# Altium integrated library Linear Technology Power Management LED Driver ICs.IntLib: 490 symbols (part 30 of 48)
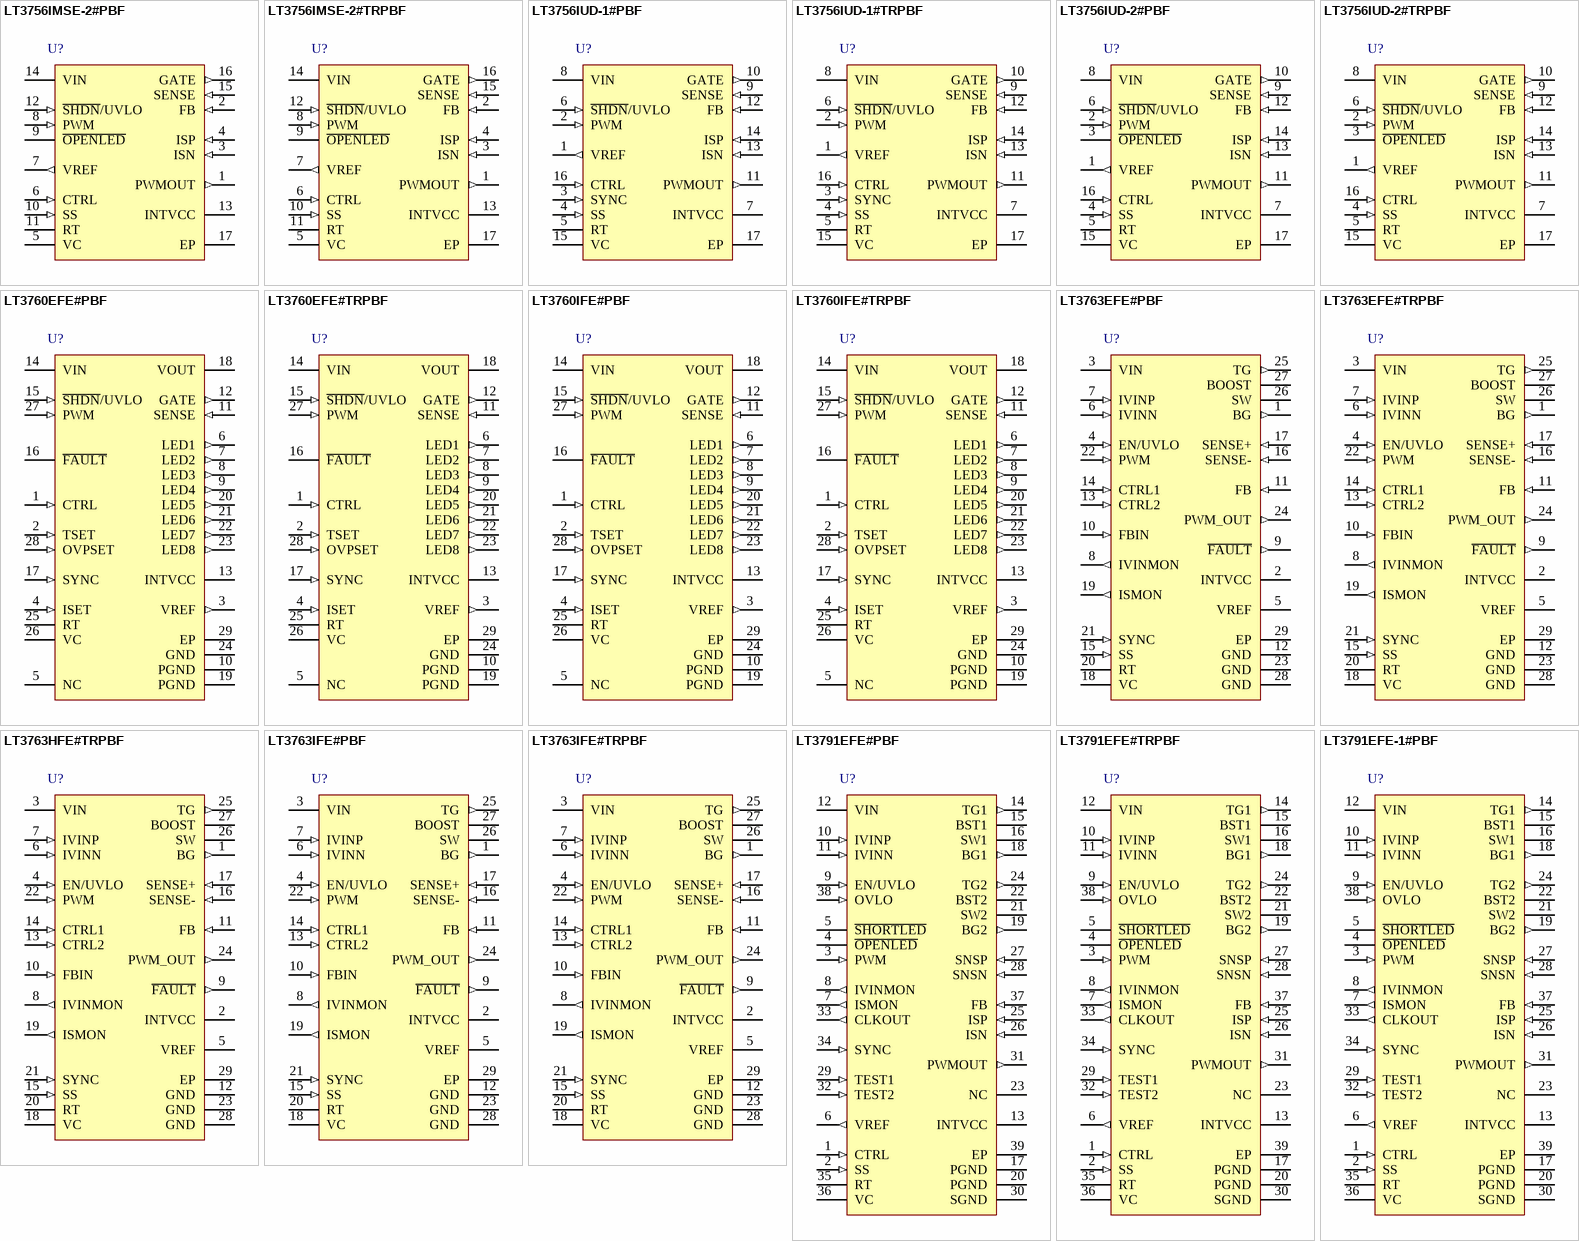
[diagram p49: symbols LT3756IMSE-2#PBF to LT3791EFE-1#PBF]

## LT3763IFE#TRPBF
designator U?
60 V High Current Step-Down LED Driver Controller, 6 to 60 V Vin, 55 V Vout MAX, 28-pin SOP (FE-28-EPV-EB), -40 to 125 degC, Pb-Free, Tape and Reel; Manufacturer: Linear Technology; PartNumber: LT3763IFE#TRPBF; Topology: Buck, LED Driver; Vin Min(V): 6; DatasheetVersion: Rev. A; PackageVersion: Rev. J, 11/2012; PackageReference: FE-28; PackageDescription: 28-Pin Plastic TSSOP, Body 9.7 x 4.4 mm, Pitch 0.65 mm; Supplier 1: Digi-Key; Supplier Part Number 1: LT3763IFE#TRPBF-ND; Supplier 2: Newark; Supplier Part Number 2: 45W8483; Packing: Tape and Reel; RoHS: TRUE; Mounting Technology: Surface Mount; ComponentLink1Description: Manufacturer URL; ComponentLink1URL: http://www.linear.com/; ComponentLink2Description: Datasheet; ComponentLink2URL: http://cds.linear.com/docs/en/datasheet/3763fa.pdf; ComponentLink3Description: Package Specification; ComponentLink3URL: http://cds.linear.com/docs/en/packaging/05081663__J_FE28(EB).pdf
footprint LT-FE-28-EPV-EB_N (SOP, 28-Leads, Body 9.8x4.5mm, Pitch 0.65mm, Thermal Pad 4.75x2.74mm, IPC Medium Density)
footprint LT-FE-28-EPV-EB_L (SOP, 28-Leads, Body 9.8x4.5mm, Pitch 0.65mm, Thermal Pad 4.75x2.74mm, IPC High Density)
footprint LT-FE-28-EPV-EB_M (SOP, 28-Leads, Body 9.8x4.5mm, Pitch 0.65mm, Thermal Pad 4.75x2.74mm, IPC Low Density)
pins: 1 BG (out) "BG is the bottom FET gate drive signal that controls the state of the external low side power FET. The driver pull-up impedance is 2.2ohm, and pull-down impedance is 1ohm. Do not force any voltage on this pin.", 2 INTVCC (power) "The INTVCC pin provides a regulated 5V output for charging the BOOST capacitor. INTVCC also provides the power for the digital and switching subcircuits. Do not force any voltage on this pin. Bypass with at least a 22uF (See Datasheet)", 3 VIN (power) "Input Supply Pin. Must be locally bypassed with at least a 4.7uF low ESR capacitor to ground as close as possible to the exposed pad of the package.", 4 EN/UVLO (in) "Enable Pin. The EN/UVLO pin acts as an enable pin and turns on the internal current bias core and sub-regulators at 1.705V and turns off at 1.52V. The pin does not have any pull-up or pull-down, requiring a voltage bias for (See Datasheet)", 5 VREF (power) "Buffered 2V Reference Capable of 0.5mA Drive. Bypass with at least 1uF capacitor to ground.", 6 IVINN (in) "IVINN is the inverting input of the input current sense amplifier. This pin connects to the drain of the high side N-channel power FET and the input current sense resistor.", 7 IVINP (in) "IVINP is the noninverting input of the input current sense amplifier. This pin connects to the input supply VIN and the input current sense resistor.", 8 IVINMON (out) "IVINMON is the buffered output of the input current sense amplifier. This pin enables monitoring of the averaged supply current with an output voltage of 20 • (VIVINP - VIVINN). The capacitive loading to this pin should b(See Datasheet)", 9 ~{FAULT} (out) "Output Voltage Fault Detection Pin for Shorted or Open LEDs. Internal comparators pull down this pin when the FB pin voltage is lower than 0.25V or higher than 1.16V and when the inductor current is less than ten percent of (See Datasheet)", 10 FBIN (in) "The FBIN pin enables peak power tracking for solar powered chargers and other similar applications by controlling the output current of the system based on the input voltage. This pin should be tied to VREF if this feature (See Datasheet)", 11 FB (in) "The feedback pin is used for voltage regulation and overvoltage protection. The feedback voltage is regulated to 1.206V. When the feedback voltage exceeds 1.515V, the overvoltage lockout prevents switching.", 12 GND (power) "Ground. The exposed pad must be soldered to the PCB.", 13 CTRL2 (in) "Thermal Control Input to Reduce the Regulated Output Current.", 14 CTRL1 (in) "The CTRL1 pin sets the regulated output current. The maximum control voltage is 1.5V. Above 1.5V, there is no change in the regulated current.", 15 SS (in) "The Soft-Start Pin. Place an external capacitor to ground to limit the regulated current during start-up conditions. The soft-start pin has an 11uA charging current. When the voltage at this pin is lower than voltages at (See Datasheet)", 16 SENSE- (in) "SENSE- is the noninverting input of the error amplifier for the current regulation loop. The reference current, based on CTRL1, CTRL2, SS or FBIN determines the regulated voltage between SENSE+ and SENSE-.", 17 SENSE+ (in) "SENSE+ is the inverting input of the error amplifier for the current regulation loop. This pin is connected to an external current sense resistor. The voltage drop between SENSE+ and SENSE- is measured against the voltage (See Datasheet)", 18 VC "A resistor and capacitor connected in series to the VC pin provide the necessary compensation for the stability of the average current loop. Typical values are 5k to 60k for the resistor and 2.2nF to 10nF for the capacitor", 19 ISMON (out) "ISMON is the buffered output of the output current sense amplifier. This voltage output enables monitoring the averaged output current of the LED driver with a voltage of 20 • (VSENSE+ - VSENSE-). The capacitive loading t(See Datasheet)", 20 RT "A resistor from the RT pin to ground sets the switching frequency between 200kHz and 1MHz. When using the SYNC function, set the frequency to be at least 20% lower than the SYNC pulse frequency. This pin is current-limited (See Datasheet)", 21 SYNC (in) "Frequency Synchronization Pin. This pin allows the switching frequency to be synchronized to an external clock. The RT resistor should be chosen to operate the internal clock at 20% slower than the SYNC pulse frequency. This (See Datasheet)", 22 PWM (in) "The input pin for PWM dimming of LEDs. When low, all switching is terminated and the PWM_OUT pin is low. This pin should be connected to INTVCC when not in use.", 23 GND (power) "Ground. The exposed pad must be soldered to the PCB.", 24 PWM_OUT (out) "This pin can drive an external FET for PWM dimming of LEDs. The pull-up and pull-down impedances of the driver are 2.2ohm and 0.9ohm, respectively. Do not force any voltage on this pin.", 25 TG (out) "TG is the top FET gate drive pin that controls the state of the external high side power FET. The driver pull-up impedance is 2.2ohm, and pull-down impedance is 1.3ohm. Do not force any voltage on this pin.", 26 SW "The SW pin is used internally as the lower rail for the floating top FET gate driver. Externally, this node connects the two power FETs and the inductor.", 27 BOOST "The BOOST pin provides a floating 5V regulated supply for the top FET gate driver. An external schottky diode is required from the INTVCC pin to the BOOST pin to charge the BOOST capacitor when the SW pin is near ground.", 28 GND (power) "Ground. The exposed pad must be soldered to the PCB.", 29 EP (power) "Ground. The exposed pad must be soldered to the PCB."

## LT3791EFE#PBF
designator U?
4-Switch Synchronous Buck-Boost LED Driver Controller, 4.7 to 60 V Vin, 60 V Vout MAX, 38-pin SOP (FE-28-EPV-AA), -40 to 125 degC, Pb-Free; Manufacturer: Linear Technology; PartNumber: LT3791EFE#PBF; Vin Min(V): 4.7; DatasheetVersion: Rev. A; PackageVersion: Rev. C, 09/2010; PackageReference: FE-38; PackageDescription: 38-Pin Plastic TSSOP, Body 9.7 x 4.4 mm, Pitch 0.5 mm; Supplier 1: Digi-Key; Supplier Part Number 1: LT3791EFE#PBF-ND; Supplier 2: Farnell; Supplier Part Number 2: 2097951; Supplier 3: Newark; Supplier Part Number 3: 93T2028; RoHS: TRUE; Topology: Buck-Boost; Mounting Technology: Surface Mount; ComponentLink1Description: Manufacturer URL; ComponentLink1URL: http://www.linear.com/; ComponentLink2Description: Datasheet; ComponentLink2URL: http://cds.linear.com/docs/en/datasheet/3791fa.pdf; ComponentLink3Description: Package Specification; ComponentLink3URL: http://cds.linear.com/docs/en/packaging/TSSOP_38_05-08-1772.pdf
footprint LT-FE-38-EPV-AA_N (SOP, 38-Leads, Body 9.8x4.5mm, Pitch 0.5mm, Thermal Pad 4.75x2.74mm, IPC Medium Density)
footprint LT-FE-38-EPV-AA_L (SOP, 38-Leads, Body 9.8x4.5mm, Pitch 0.5mm, Thermal Pad 4.75x2.74mm, IPC High Density)
footprint LT-FE-38-EPV-AA_M (SOP, 38-Leads, Body 9.8x4.5mm, Pitch 0.5mm, Thermal Pad 4.75x2.74mm, IPC Low Density)
pins: 1 CTRL (in) "Current Sense Threshold Adjustment Pin for Analog Dimming. Regulating threshold V(ISP-ISN) is 1/10th of (VCTRL - 200mV). CTRL linear range is from 200mV to 1.1V. For VCTRL > 1.3V, the current sense threshold is constant at (See Datasheet)", 2 SS (in) "Soft-start reduces the input power sources surge current by gradually increasing the controller’s current limit. A minimum value of 10nF is recommended on this pin. SS is used as a timer when an open or shorted LE(See Datasheet)", 3 PWM (in) "A signal low turns off switches, idles switching and disconnects the VC pin from all external loads. The PWMOUT pin follows the PWM pin. PWM has an internal 100k pull-down resistor. If not used, connect to INTVCC.", 4 ~{OPENLED} (oc) "An open-drain pull-down on O\P\E\N\L\E\D\ asserts if FB is greater than 1.15V (typical) and V(ISP-ISN) is less than 10mV (typical). To function, the pin requires an external pull-up resistor.", 5 ~{SHORTLED} (oc) "An open-drain pull-down on S\H\O\RT\L\E\D\ asserts if FB is less than 400mV (typical). To function, the pin requires an external pull-up resistor.", 6 VREF (out) "Voltage Reference Output Pin, Typically 2V. This pin drives a resistor divider for the CTRL pin, either for analog dimming or for temperature limit/compensation of the LED load. Can supply up to 200uA of current.", 7 ISMON (out) "Monitor pin that produces a voltage that is ten times the voltage V(ISP-ISN). ISMON will equal 1V when V(ISP-ISN) = 100mV.", 8 IVINMON (out) "Monitor pin that produces a voltage that is twenty times the voltage V(IVINP-IVINN). IVINMON will equal 1V when V(IVINP-IVINN) = 50mV.", 9 EN/UVLO (in) "Enable Control Pin. Forcing an accurate 1.2V falling threshold with an externally programmable hysteresis is generated by the external resistor divider and a 3uA pull-down current. Above the 1.2V (typical) threshold (but (See Datasheet)", 10 IVINP (in) "Positive Input for the Input Current Limit and Monitor. Input bias current for this pin is typically 90uA.", 11 IVINN (in) "Negative Input for the Input Current Limit and Monitor. The input bias current for this pin is typically 20uA.", 12 VIN (power) "Main Input Supply. Bypass this pin to PGND with a capacitor.", 13 INTVCC (power) "Internal 5V Regulator Output. The driver and control circuits are powered from this voltage. Bypass this pin to PGND with a minimum 4.7uF ceramic capacitor.", 14 TG1 (out) "Top Gate Drive. Drives the top N-channel MOSFET with a voltage equal to INTVCC superimposed on the switch node voltage SW1.", 15 BST1 "Bootstrapped Driver Supply. The BST1 pin swings from a diode voltage below INTVCC up to a diode voltage below VIN + INTVCC.", 16 SW1 "Switch Node. SW1 pin swings from a diode voltage drop below ground up to VIN.", 17 PGND (power) "Power Ground. Connect these pins closely to the source of the bottom N-channel MOSFET", 18 BG1 (out) "Bottom Gate Drive. Drives the gate of the bottom N-channel MOSFET between ground and INTVCC.", 19 BG2 (out) "Bottom Gate Drive. Drives the gate of the bottom N-channel MOSFET between ground and INTVCC.", 20 PGND (power) "Power Ground. Connect these pins closely to the source of the bottom N-channel MOSFET", 21 SW2 "Switch Node. SW2 pin swings from a diode voltage drop below ground up to VOUT.", 22 BST2 "Bootstrapped Driver Supply. The BST2 pin swings from a diode voltage below INTVCC up to a diode voltage below VOUT + INTVCC.", 23 NC "No Connect Pin. Leave this pin floating.", 24 TG2 (out) "Top Gate Drive. Drives the top N-channel MOSFET with a voltage equal to INTVCC superimposed on the switch node voltage SW2.", 25 ISP (in) "Connection Point for the Positive Terminal of the Output Current Feedback Resistor.", 26 ISN (in) "Connection Point for the Negative Terminal of the Output Current Feedback Resistor.", 27 SNSP (in) "The Positive Input to the Current Sense Comparator. The VC pin voltage and controlled offsets between the SNSP and SNSN pins, in conjunction with a resistor, set the current trip threshold.", 28 SNSN (in) "The Negative Input to the Current Sense Comparator.", 29 TEST1 (in) "This pin is used for testing purposes only and must be connected to SGND for the part to operate properly.", 30 SGND (power) "Signal Ground. All small-signal components and compensation should connect to this ground, which should be connected to PGND at a single point. Solder the exposed pad directly to the ground plane.", 31 PWMOUT (out) "Buffered Version of PWM Signal for Driving LED Load Disconnect N-Channel MOSFET. The PWMOUT pin is driven from INTVCC. Use of a MOSFET with a gate cutoff voltage higher than 1V is recommended.", 32 TEST2 (in) "This pin is used for testing purposes only and must be connected to INTVCC (Pin 13) for the part to operate properly.", 33 CLKOUT (out) "Clock Output Pin. An in-phase clock is provided at the oscillator frequency to allow for synchronizing two devices for extending output power capability.", 34 SYNC (in) "External Synchronization Input Pin. This pin is internally terminated to GND with a 90k resistor. The rising edge will be synchronized with the rising edge of the SYNC signal.", 35 RT "Frequency Set Pin. Place a resistor to GND to set the internal frequency. The range of oscillation is 200kHz to 700kHz.", 36 VC "Current Control Threshold and Error Amplifier Compensation Point. The current comparator threshold increases with this control voltage. The voltage ranges from 0.7V to 1.9V.", 37 FB (in) "Voltage Loop Feedback Pin. FB is intended for LED protection of an open or shorted LED event. The internal transconductance amplifier with output VC will regulate FB to 1.2V (typical) through the DC/DC converter. If the FB (See Datasheet)", 38 OVLO (in) "Overvoltage Input Pin. This pin is used for OVLO, if OVLO > 3V then SS is pulled low, the part stops switching and resets. Do not leave this pin open.", 39 EP (power) "Signal Ground. All small-signal components and compensation should connect to this ground, which should be connected to PGND at a single point. Solder the exposed pad directly to the ground plane."

## LT3791EFE#TRPBF
designator U?
4-Switch Synchronous Buck-Boost LED Driver Controller, 4.7 to 60 V Vin, 60 V Vout MAX, 38-pin SOP (FE-28-EPV-AA), -40 to 125 degC, Pb-Free, Tape and Reel; Manufacturer: Linear Technology; PartNumber: LT3791EFE#TRPBF; Vin Min(V): 4.7; DatasheetVersion: Rev. A; PackageVersion: Rev. C, 09/2010; PackageReference: FE-38; PackageDescription: 38-Pin Plastic TSSOP, Body 9.7 x 4.4 mm, Pitch 0.5 mm; Supplier 1: Digi-Key; Supplier Part Number 1: LT3791EFE#TRPBF-ND; Supplier 2: Newark; Supplier Part Number 2: 94T1347; Packing: Tape and Reel; RoHS: TRUE; Topology: Buck-Boost; Mounting Technology: Surface Mount; ComponentLink1Description: Manufacturer URL; ComponentLink1URL: http://www.linear.com/; ComponentLink2Description: Datasheet; ComponentLink2URL: http://cds.linear.com/docs/en/datasheet/3791fa.pdf; ComponentLink3Description: Package Specification; ComponentLink3URL: http://cds.linear.com/docs/en/packaging/TSSOP_38_05-08-1772.pdf
footprint LT-FE-38-EPV-AA_N (SOP, 38-Leads, Body 9.8x4.5mm, Pitch 0.5mm, Thermal Pad 4.75x2.74mm, IPC Medium Density)
footprint LT-FE-38-EPV-AA_L (SOP, 38-Leads, Body 9.8x4.5mm, Pitch 0.5mm, Thermal Pad 4.75x2.74mm, IPC High Density)
footprint LT-FE-38-EPV-AA_M (SOP, 38-Leads, Body 9.8x4.5mm, Pitch 0.5mm, Thermal Pad 4.75x2.74mm, IPC Low Density)
pins: 1 CTRL (in) "Current Sense Threshold Adjustment Pin for Analog Dimming. Regulating threshold V(ISP-ISN) is 1/10th of (VCTRL - 200mV). CTRL linear range is from 200mV to 1.1V. For VCTRL > 1.3V, the current sense threshold is constant at (See Datasheet)", 2 SS (in) "Soft-start reduces the input power sources surge current by gradually increasing the controller’s current limit. A minimum value of 10nF is recommended on this pin. SS is used as a timer when an open or shorted LE(See Datasheet)", 3 PWM (in) "A signal low turns off switches, idles switching and disconnects the VC pin from all external loads. The PWMOUT pin follows the PWM pin. PWM has an internal 100k pull-down resistor. If not used, connect to INTVCC.", 4 ~{OPENLED} (oc) "An open-drain pull-down on O\P\E\N\L\E\D\ asserts if FB is greater than 1.15V (typical) and V(ISP-ISN) is less than 10mV (typical). To function, the pin requires an external pull-up resistor.", 5 ~{SHORTLED} (oc) "An open-drain pull-down on S\H\O\RT\L\E\D\ asserts if FB is less than 400mV (typical). To function, the pin requires an external pull-up resistor.", 6 VREF (out) "Voltage Reference Output Pin, Typically 2V. This pin drives a resistor divider for the CTRL pin, either for analog dimming or for temperature limit/compensation of the LED load. Can supply up to 200uA of current.", 7 ISMON (out) "Monitor pin that produces a voltage that is ten times the voltage V(ISP-ISN). ISMON will equal 1V when V(ISP-ISN) = 100mV.", 8 IVINMON (out) "Monitor pin that produces a voltage that is twenty times the voltage V(IVINP-IVINN). IVINMON will equal 1V when V(IVINP-IVINN) = 50mV.", 9 EN/UVLO (in) "Enable Control Pin. Forcing an accurate 1.2V falling threshold with an externally programmable hysteresis is generated by the external resistor divider and a 3uA pull-down current. Above the 1.2V (typical) threshold (but (See Datasheet)", 10 IVINP (in) "Positive Input for the Input Current Limit and Monitor. Input bias current for this pin is typically 90uA.", 11 IVINN (in) "Negative Input for the Input Current Limit and Monitor. The input bias current for this pin is typically 20uA.", 12 VIN (power) "Main Input Supply. Bypass this pin to PGND with a capacitor.", 13 INTVCC (power) "Internal 5V Regulator Output. The driver and control circuits are powered from this voltage. Bypass this pin to PGND with a minimum 4.7uF ceramic capacitor.", 14 TG1 (out) "Top Gate Drive. Drives the top N-channel MOSFET with a voltage equal to INTVCC superimposed on the switch node voltage SW1.", 15 BST1 "Bootstrapped Driver Supply. The BST1 pin swings from a diode voltage below INTVCC up to a diode voltage below VIN + INTVCC.", 16 SW1 "Switch Node. SW1 pin swings from a diode voltage drop below ground up to VIN.", 17 PGND (power) "Power Ground. Connect these pins closely to the source of the bottom N-channel MOSFET", 18 BG1 (out) "Bottom Gate Drive. Drives the gate of the bottom N-channel MOSFET between ground and INTVCC.", 19 BG2 (out) "Bottom Gate Drive. Drives the gate of the bottom N-channel MOSFET between ground and INTVCC.", 20 PGND (power) "Power Ground. Connect these pins closely to the source of the bottom N-channel MOSFET", 21 SW2 "Switch Node. SW2 pin swings from a diode voltage drop below ground up to VOUT.", 22 BST2 "Bootstrapped Driver Supply. The BST2 pin swings from a diode voltage below INTVCC up to a diode voltage below VOUT + INTVCC.", 23 NC "No Connect Pin. Leave this pin floating.", 24 TG2 (out) "Top Gate Drive. Drives the top N-channel MOSFET with a voltage equal to INTVCC superimposed on the switch node voltage SW2.", 25 ISP (in) "Connection Point for the Positive Terminal of the Output Current Feedback Resistor.", 26 ISN (in) "Connection Point for the Negative Terminal of the Output Current Feedback Resistor.", 27 SNSP (in) "The Positive Input to the Current Sense Comparator. The VC pin voltage and controlled offsets between the SNSP and SNSN pins, in conjunction with a resistor, set the current trip threshold.", 28 SNSN (in) "The Negative Input to the Current Sense Comparator.", 29 TEST1 (in) "This pin is used for testing purposes only and must be connected to SGND for the part to operate properly.", 30 SGND (power) "Signal Ground. All small-signal components and compensation should connect to this ground, which should be connected to PGND at a single point. Solder the exposed pad directly to the ground plane.", 31 PWMOUT (out) "Buffered Version of PWM Signal for Driving LED Load Disconnect N-Channel MOSFET. The PWMOUT pin is driven from INTVCC. Use of a MOSFET with a gate cutoff voltage higher than 1V is recommended.", 32 TEST2 (in) "This pin is used for testing purposes only and must be connected to INTVCC (Pin 13) for the part to operate properly.", 33 CLKOUT (out) "Clock Output Pin. An in-phase clock is provided at the oscillator frequency to allow for synchronizing two devices for extending output power capability.", 34 SYNC (in) "External Synchronization Input Pin. This pin is internally terminated to GND with a 90k resistor. The rising edge will be synchronized with the rising edge of the SYNC signal.", 35 RT "Frequency Set Pin. Place a resistor to GND to set the internal frequency. The range of oscillation is 200kHz to 700kHz.", 36 VC "Current Control Threshold and Error Amplifier Compensation Point. The current comparator threshold increases with this control voltage. The voltage ranges from 0.7V to 1.9V.", 37 FB (in) "Voltage Loop Feedback Pin. FB is intended for LED protection of an open or shorted LED event. The internal transconductance amplifier with output VC will regulate FB to 1.2V (typical) through the DC/DC converter. If the FB (See Datasheet)", 38 OVLO (in) "Overvoltage Input Pin. This pin is used for OVLO, if OVLO > 3V then SS is pulled low, the part stops switching and resets. Do not leave this pin open.", 39 EP (power) "Signal Ground. All small-signal components and compensation should connect to this ground, which should be connected to PGND at a single point. Solder the exposed pad directly to the ground plane."

## LT3791EFE-1#PBF
designator U?
4-Switch Synchronous Buck-Boost LED Driver Controller, 4.7 to 60 V Vin, 60 V Vout MAX, 38-pin SOP (FE-28-EPV-AA), -40 to 125 degC, Pb-Free; Manufacturer: Linear Technology; PartNumber: LT3791EFE-1#PBF; Vin Min(V): 4.7; DatasheetVersion: Rev. A; PackageVersion: Rev. C, 09/2010; PackageReference: FE-38; PackageDescription: 38-Pin Plastic TSSOP, Body 9.7 x 4.4 mm, Pitch 0.5 mm; Supplier 1: Digi-Key; Supplier Part Number 1: LT3791EFE-1#PBF-ND; Supplier 2: Farnell; Supplier Part Number 2: 2215158; Supplier 3: Newark; Supplier Part Number 3: 27W9553; RoHS: TRUE; Topology: Buck-Boost; Mounting Technology: Surface Mount; ComponentLink1Description: Manufacturer URL; ComponentLink1URL: http://www.linear.com/; ComponentLink2Description: Datasheet; ComponentLink2URL: http://cds.linear.com/docs/en/datasheet/3791fa.pdf; ComponentLink3Description: Package Specification; ComponentLink3URL: http://cds.linear.com/docs/en/packaging/TSSOP_38_05-08-1772.pdf
footprint LT-FE-38-EPV-AA_N (SOP, 38-Leads, Body 9.8x4.5mm, Pitch 0.5mm, Thermal Pad 4.75x2.74mm, IPC Medium Density)
footprint LT-FE-38-EPV-AA_L (SOP, 38-Leads, Body 9.8x4.5mm, Pitch 0.5mm, Thermal Pad 4.75x2.74mm, IPC High Density)
footprint LT-FE-38-EPV-AA_M (SOP, 38-Leads, Body 9.8x4.5mm, Pitch 0.5mm, Thermal Pad 4.75x2.74mm, IPC Low Density)
pins: 1 CTRL (in) "Current Sense Threshold Adjustment Pin for Analog Dimming. Regulating threshold V(ISP-ISN) is 1/10th of (VCTRL - 200mV). CTRL linear range is from 200mV to 1.1V. For VCTRL > 1.3V, the current sense threshold is constant at (See Datasheet)", 2 SS (in) "Soft-start reduces the input power sources surge current by gradually increasing the controller’s current limit. A minimum value of 10nF is recommended on this pin. SS is used as a timer when an open or shorted LE(See Datasheet)", 3 PWM (in) "A signal low turns off switches, idles switching and disconnects the VC pin from all external loads. The PWMOUT pin follows the PWM pin. PWM has an internal 100k pull-down resistor. If not used, connect to INTVCC.", 4 ~{OPENLED} (oc) "An open-drain pull-down on O\P\E\N\L\E\D\ asserts if FB is greater than 1.15V (typical) and V(ISP-ISN) is less than 10mV (typical). To function, the pin requires an external pull-up resistor.", 5 ~{SHORTLED} (oc) "An open-drain pull-down on S\H\O\RT\L\E\D\ asserts if FB is less than 400mV (typical). To function, the pin requires an external pull-up resistor.", 6 VREF (out) "Voltage Reference Output Pin, Typically 2V. This pin drives a resistor divider for the CTRL pin, either for analog dimming or for temperature limit/compensation of the LED load. Can supply up to 200uA of current.", 7 ISMON (out) "Monitor pin that produces a voltage that is ten times the voltage V(ISP-ISN). ISMON will equal 1V when V(ISP-ISN) = 100mV.", 8 IVINMON (out) "Monitor pin that produces a voltage that is twenty times the voltage V(IVINP-IVINN). IVINMON will equal 1V when V(IVINP-IVINN) = 50mV.", 9 EN/UVLO (in) "Enable Control Pin. Forcing an accurate 1.2V falling threshold with an externally programmable hysteresis is generated by the external resistor divider and a 3uA pull-down current. Above the 1.2V (typical) threshold (but (See Datasheet)", 10 IVINP (in) "Positive Input for the Input Current Limit and Monitor. Input bias current for this pin is typically 90uA.", 11 IVINN (in) "Negative Input for the Input Current Limit and Monitor. The input bias current for this pin is typically 20uA.", 12 VIN (power) "Main Input Supply. Bypass this pin to PGND with a capacitor.", 13 INTVCC (power) "Internal 5V Regulator Output. The driver and control circuits are powered from this voltage. Bypass this pin to PGND with a minimum 4.7uF ceramic capacitor.", 14 TG1 (out) "Top Gate Drive. Drives the top N-channel MOSFET with a voltage equal to INTVCC superimposed on the switch node voltage SW1.", 15 BST1 "Bootstrapped Driver Supply. The BST1 pin swings from a diode voltage below INTVCC up to a diode voltage below VIN + INTVCC.", 16 SW1 "Switch Node. SW1 pin swings from a diode voltage drop below ground up to VIN.", 17 PGND (power) "Power Ground. Connect these pins closely to the source of the bottom N-channel MOSFET", 18 BG1 (out) "Bottom Gate Drive. Drives the gate of the bottom N-channel MOSFET between ground and INTVCC.", 19 BG2 (out) "Bottom Gate Drive. Drives the gate of the bottom N-channel MOSFET between ground and INTVCC.", 20 PGND (power) "Power Ground. Connect these pins closely to the source of the bottom N-channel MOSFET", 21 SW2 "Switch Node. SW2 pin swings from a diode voltage drop below ground up to VOUT.", 22 BST2 "Bootstrapped Driver Supply. The BST2 pin swings from a diode voltage below INTVCC up to a diode voltage below VOUT + INTVCC.", 23 NC "No Connect Pin. Leave this pin floating.", 24 TG2 (out) "Top Gate Drive. Drives the top N-channel MOSFET with a voltage equal to INTVCC superimposed on the switch node voltage SW2.", 25 ISP (in) "Connection Point for the Positive Terminal of the Output Current Feedback Resistor.", 26 ISN (in) "Connection Point for the Negative Terminal of the Output Current Feedback Resistor.", 27 SNSP (in) "The Positive Input to the Current Sense Comparator. The VC pin voltage and controlled offsets between the SNSP and SNSN pins, in conjunction with a resistor, set the current trip threshold.", 28 SNSN (in) "The Negative Input to the Current Sense Comparator.", 29 TEST1 (in) "This pin is used for testing purposes only and must be connected to SGND for the part to operate properly.", 30 SGND (power) "Signal Ground. All small-signal components and compensation should connect to this ground, which should be connected to PGND at a single point. Solder the exposed pad directly to the ground plane.", 31 PWMOUT (out) "Buffered Version of PWM Signal for Driving LED Load Disconnect N-Channel MOSFET. The PWMOUT pin is driven from INTVCC. Use of a MOSFET with a gate cutoff voltage higher than 1V is recommended.", 32 TEST2 (in) "This pin is used for testing purposes only and must be connected to INTVCC (Pin 13) for the part to operate properly.", 33 CLKOUT (out) "Clock Output Pin. An in-phase clock is provided at the oscillator frequency to allow for synchronizing two devices for extending output power capability.", 34 SYNC (in) "External Synchronization Input Pin. This pin is internally terminated to GND with a 90k resistor. The rising edge will be synchronized with the rising edge of the SYNC signal.", 35 RT "Frequency Set Pin. Place a resistor to GND to set the internal frequency. The range of oscillation is 200kHz to 700kHz.", 36 VC "Current Control Threshold and Error Amplifier Compensation Point. The current comparator threshold increases with this control voltage. The voltage ranges from 0.7V to 1.9V.", 37 FB (in) "Voltage Loop Feedback Pin. FB is intended for LED protection of an open or shorted LED event. The internal transconductance amplifier with output VC will regulate FB to 1.2V (typical) through the DC/DC converter. If the FB (See Datasheet)", 38 OVLO (in) "Overvoltage Input Pin. This pin is used for OVLO, if OVLO > 3V then SS is pulled low, the part stops switching and resets. Do not leave this pin open.", 39 EP (power) "Signal Ground. All small-signal components and compensation should connect to this ground, which should be connected to PGND at a single point. Solder the exposed pad directly to the ground plane."

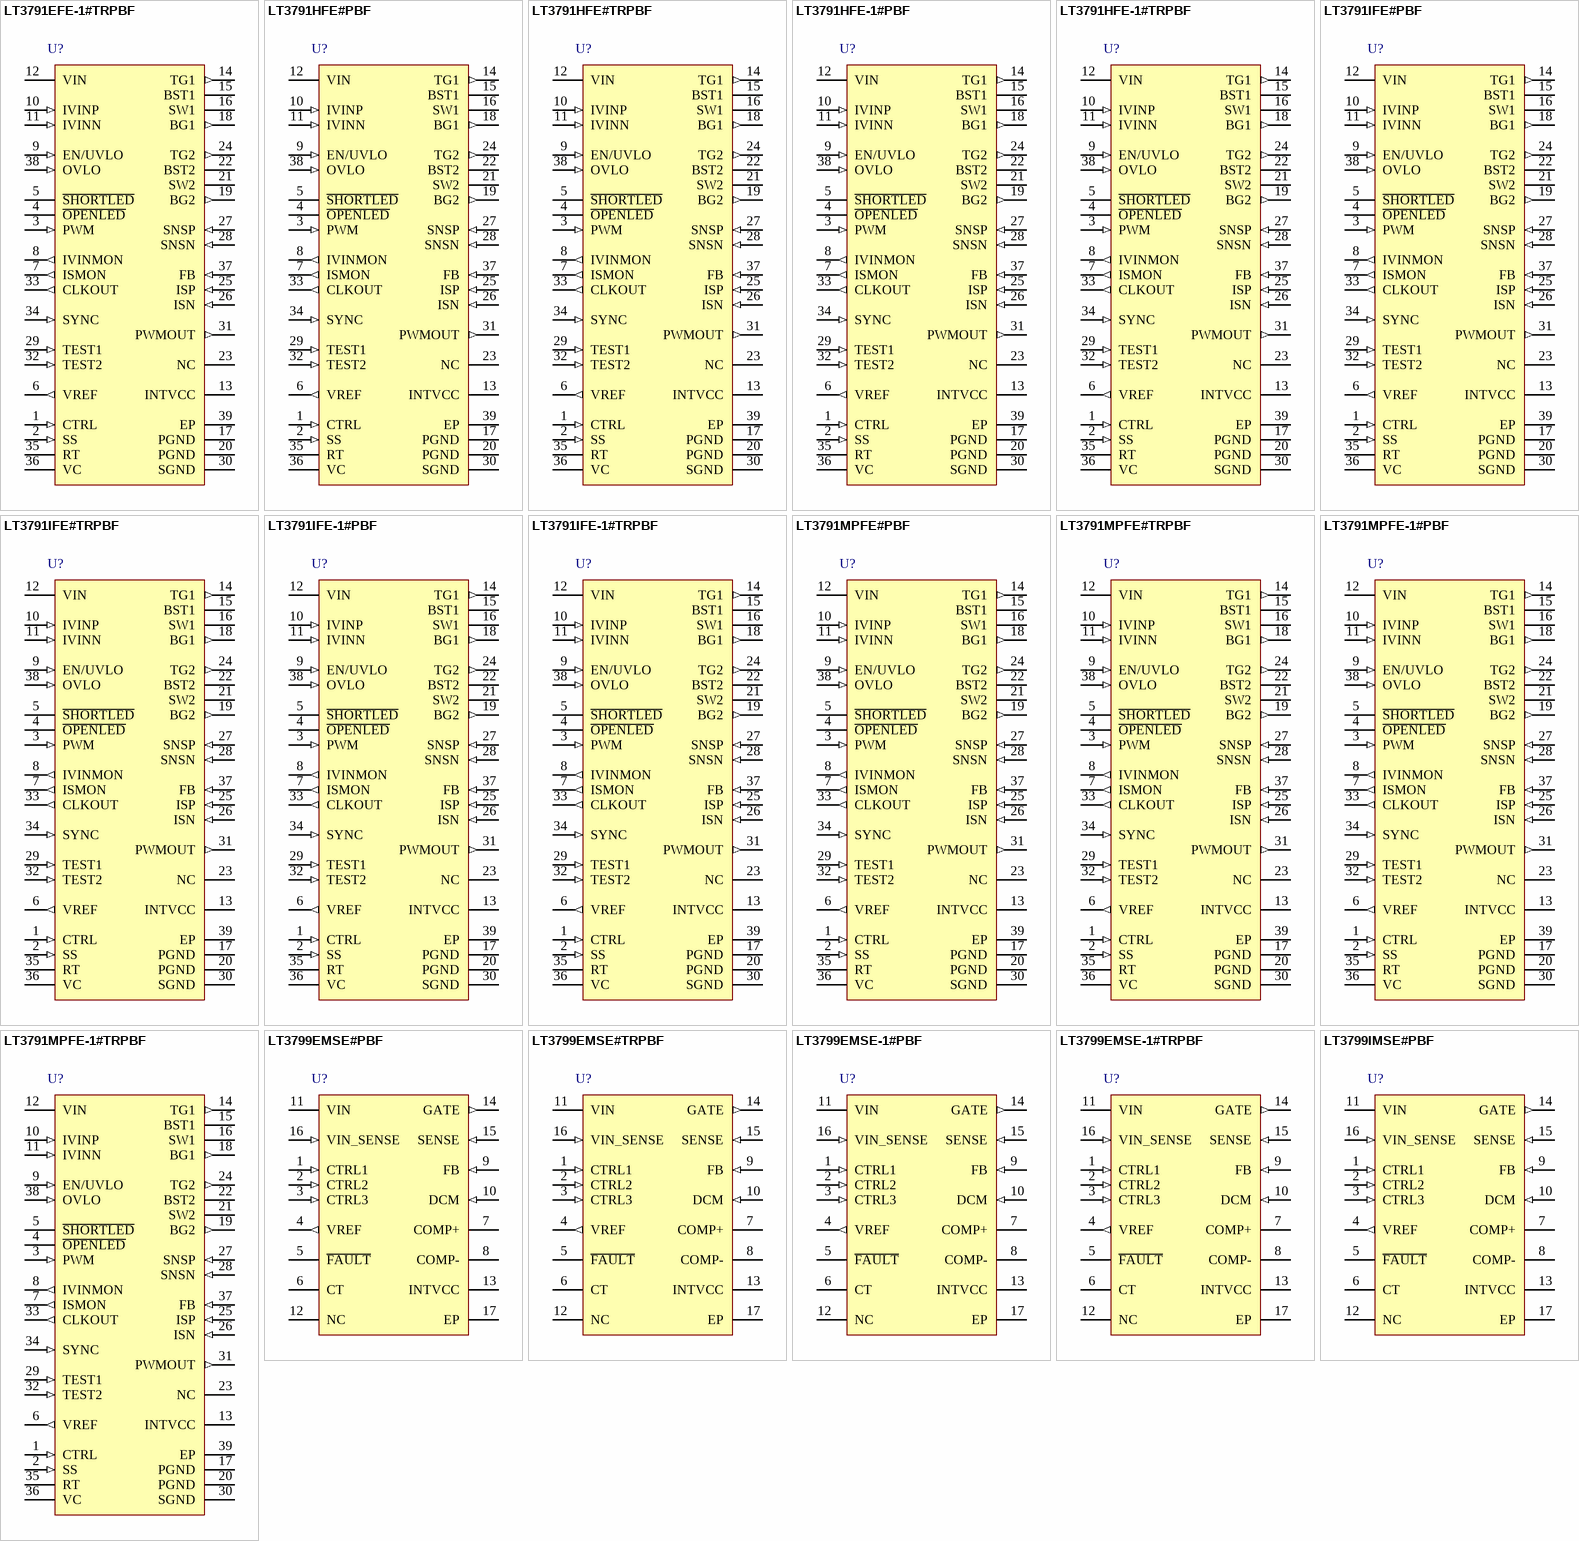
[diagram p13: symbols LT3791EFE-1#TRPBF to LT3799IMSE#PBF]

## LT3791EFE-1#TRPBF
designator U?
4-Switch Synchronous Buck-Boost LED Driver Controller, 4.7 to 60 V Vin, 60 V Vout MAX, 38-pin SOP (FE-28-EPV-AA), -40 to 125 degC, Pb-Free, Tape and Reel; Manufacturer: Linear Technology; PartNumber: LT3791EFE-1#TRPBF; Vin Min(V): 4.7; DatasheetVersion: Rev. A; PackageVersion: Rev. C, 09/2010; PackageReference: FE-38; PackageDescription: 38-Pin Plastic TSSOP, Body 9.7 x 4.4 mm, Pitch 0.5 mm; Supplier 1: Digi-Key; Supplier Part Number 1: LT3791EFE-1#TRPBF-ND; Supplier 2: Newark; Supplier Part Number 2: 27W9554; Packing: Tape and Reel; RoHS: TRUE; Topology: Buck-Boost; Mounting Technology: Surface Mount; ComponentLink1Description: Manufacturer URL; ComponentLink1URL: http://www.linear.com/; ComponentLink2Description: Datasheet; ComponentLink2URL: http://cds.linear.com/docs/en/datasheet/3791fa.pdf; ComponentLink3Description: Package Specification; ComponentLink3URL: http://cds.linear.com/docs/en/packaging/TSSOP_38_05-08-1772.pdf
footprint LT-FE-38-EPV-AA_N (SOP, 38-Leads, Body 9.8x4.5mm, Pitch 0.5mm, Thermal Pad 4.75x2.74mm, IPC Medium Density)
footprint LT-FE-38-EPV-AA_L (SOP, 38-Leads, Body 9.8x4.5mm, Pitch 0.5mm, Thermal Pad 4.75x2.74mm, IPC High Density)
footprint LT-FE-38-EPV-AA_M (SOP, 38-Leads, Body 9.8x4.5mm, Pitch 0.5mm, Thermal Pad 4.75x2.74mm, IPC Low Density)
pins: 1 CTRL (in) "Current Sense Threshold Adjustment Pin for Analog Dimming. Regulating threshold V(ISP-ISN) is 1/10th of (VCTRL - 200mV). CTRL linear range is from 200mV to 1.1V. For VCTRL > 1.3V, the current sense threshold is constant at (See Datasheet)", 2 SS (in) "Soft-start reduces the input power sources surge current by gradually increasing the controller’s current limit. A minimum value of 10nF is recommended on this pin. SS is used as a timer when an open or shorted LE(See Datasheet)", 3 PWM (in) "A signal low turns off switches, idles switching and disconnects the VC pin from all external loads. The PWMOUT pin follows the PWM pin. PWM has an internal 100k pull-down resistor. If not used, connect to INTVCC.", 4 ~{OPENLED} (oc) "An open-drain pull-down on O\P\E\N\L\E\D\ asserts if FB is greater than 1.15V (typical) and V(ISP-ISN) is less than 10mV (typical). To function, the pin requires an external pull-up resistor.", 5 ~{SHORTLED} (oc) "An open-drain pull-down on S\H\O\RT\L\E\D\ asserts if FB is less than 400mV (typical). To function, the pin requires an external pull-up resistor.", 6 VREF (out) "Voltage Reference Output Pin, Typically 2V. This pin drives a resistor divider for the CTRL pin, either for analog dimming or for temperature limit/compensation of the LED load. Can supply up to 200uA of current.", 7 ISMON (out) "Monitor pin that produces a voltage that is ten times the voltage V(ISP-ISN). ISMON will equal 1V when V(ISP-ISN) = 100mV.", 8 IVINMON (out) "Monitor pin that produces a voltage that is twenty times the voltage V(IVINP-IVINN). IVINMON will equal 1V when V(IVINP-IVINN) = 50mV.", 9 EN/UVLO (in) "Enable Control Pin. Forcing an accurate 1.2V falling threshold with an externally programmable hysteresis is generated by the external resistor divider and a 3uA pull-down current. Above the 1.2V (typical) threshold (but (See Datasheet)", 10 IVINP (in) "Positive Input for the Input Current Limit and Monitor. Input bias current for this pin is typically 90uA.", 11 IVINN (in) "Negative Input for the Input Current Limit and Monitor. The input bias current for this pin is typically 20uA.", 12 VIN (power) "Main Input Supply. Bypass this pin to PGND with a capacitor.", 13 INTVCC (power) "Internal 5V Regulator Output. The driver and control circuits are powered from this voltage. Bypass this pin to PGND with a minimum 4.7uF ceramic capacitor.", 14 TG1 (out) "Top Gate Drive. Drives the top N-channel MOSFET with a voltage equal to INTVCC superimposed on the switch node voltage SW1.", 15 BST1 "Bootstrapped Driver Supply. The BST1 pin swings from a diode voltage below INTVCC up to a diode voltage below VIN + INTVCC.", 16 SW1 "Switch Node. SW1 pin swings from a diode voltage drop below ground up to VIN.", 17 PGND (power) "Power Ground. Connect these pins closely to the source of the bottom N-channel MOSFET", 18 BG1 (out) "Bottom Gate Drive. Drives the gate of the bottom N-channel MOSFET between ground and INTVCC.", 19 BG2 (out) "Bottom Gate Drive. Drives the gate of the bottom N-channel MOSFET between ground and INTVCC.", 20 PGND (power) "Power Ground. Connect these pins closely to the source of the bottom N-channel MOSFET", 21 SW2 "Switch Node. SW2 pin swings from a diode voltage drop below ground up to VOUT.", 22 BST2 "Bootstrapped Driver Supply. The BST2 pin swings from a diode voltage below INTVCC up to a diode voltage below VOUT + INTVCC.", 23 NC "No Connect Pin. Leave this pin floating.", 24 TG2 (out) "Top Gate Drive. Drives the top N-channel MOSFET with a voltage equal to INTVCC superimposed on the switch node voltage SW2.", 25 ISP (in) "Connection Point for the Positive Terminal of the Output Current Feedback Resistor.", 26 ISN (in) "Connection Point for the Negative Terminal of the Output Current Feedback Resistor.", 27 SNSP (in) "The Positive Input to the Current Sense Comparator. The VC pin voltage and controlled offsets between the SNSP and SNSN pins, in conjunction with a resistor, set the current trip threshold.", 28 SNSN (in) "The Negative Input to the Current Sense Comparator.", 29 TEST1 (in) "This pin is used for testing purposes only and must be connected to SGND for the part to operate properly.", 30 SGND (power) "Signal Ground. All small-signal components and compensation should connect to this ground, which should be connected to PGND at a single point. Solder the exposed pad directly to the ground plane.", 31 PWMOUT (out) "Buffered Version of PWM Signal for Driving LED Load Disconnect N-Channel MOSFET. The PWMOUT pin is driven from INTVCC. Use of a MOSFET with a gate cutoff voltage higher than 1V is recommended.", 32 TEST2 (in) "This pin is used for testing purposes only and must be connected to INTVCC (Pin 13) for the part to operate properly.", 33 CLKOUT (out) "Clock Output Pin. An in-phase clock is provided at the oscillator frequency to allow for synchronizing two devices for extending output power capability.", 34 SYNC (in) "External Synchronization Input Pin. This pin is internally terminated to GND with a 90k resistor. The rising edge will be synchronized with the rising edge of the SYNC signal.", 35 RT "Frequency Set Pin. Place a resistor to GND to set the internal frequency. The range of oscillation is 200kHz to 700kHz.", 36 VC "Current Control Threshold and Error Amplifier Compensation Point. The current comparator threshold increases with this control voltage. The voltage ranges from 0.7V to 1.9V.", 37 FB (in) "Voltage Loop Feedback Pin. FB is intended for LED protection of an open or shorted LED event. The internal transconductance amplifier with output VC will regulate FB to 1.2V (typical) through the DC/DC converter. If the FB (See Datasheet)", 38 OVLO (in) "Overvoltage Input Pin. This pin is used for OVLO, if OVLO > 3V then SS is pulled low, the part stops switching and resets. Do not leave this pin open.", 39 EP (power) "Signal Ground. All small-signal components and compensation should connect to this ground, which should be connected to PGND at a single point. Solder the exposed pad directly to the ground plane."

## LT3791HFE#PBF
designator U?
4-Switch Synchronous Buck-Boost LED Driver Controller, 4.7 to 60 V Vin, 60 V Vout MAX, 38-pin SOP (FE-28-EPV-AA), -40 to 150 degC, Pb-Free; Manufacturer: Linear Technology; PartNumber: LT3791HFE#PBF; Vin Min(V): 4.7; DatasheetVersion: Rev. A; PackageVersion: Rev. C, 09/2010; PackageReference: FE-38; PackageDescription: 38-Pin Plastic TSSOP, Body 9.7 x 4.4 mm, Pitch 0.5 mm; Supplier 1: Digi-Key; Supplier Part Number 1: LT3791HFE#PBF-ND; Supplier 2: Farnell; Supplier Part Number 2: 2097952; Supplier 3: Newark; Supplier Part Number 3: 93T2029; RoHS: TRUE; Topology: Buck-Boost; Mounting Technology: Surface Mount; ComponentLink1Description: Manufacturer URL; ComponentLink1URL: http://www.linear.com/; ComponentLink2Description: Datasheet; ComponentLink2URL: http://cds.linear.com/docs/en/datasheet/3791fa.pdf; ComponentLink3Description: Package Specification; ComponentLink3URL: http://cds.linear.com/docs/en/packaging/TSSOP_38_05-08-1772.pdf
footprint LT-FE-38-EPV-AA_N (SOP, 38-Leads, Body 9.8x4.5mm, Pitch 0.5mm, Thermal Pad 4.75x2.74mm, IPC Medium Density)
footprint LT-FE-38-EPV-AA_L (SOP, 38-Leads, Body 9.8x4.5mm, Pitch 0.5mm, Thermal Pad 4.75x2.74mm, IPC High Density)
footprint LT-FE-38-EPV-AA_M (SOP, 38-Leads, Body 9.8x4.5mm, Pitch 0.5mm, Thermal Pad 4.75x2.74mm, IPC Low Density)
pins: 1 CTRL (in) "Current Sense Threshold Adjustment Pin for Analog Dimming. Regulating threshold V(ISP-ISN) is 1/10th of (VCTRL - 200mV). CTRL linear range is from 200mV to 1.1V. For VCTRL > 1.3V, the current sense threshold is constant at (See Datasheet)", 2 SS (in) "Soft-start reduces the input power sources surge current by gradually increasing the controller’s current limit. A minimum value of 10nF is recommended on this pin. SS is used as a timer when an open or shorted LE(See Datasheet)", 3 PWM (in) "A signal low turns off switches, idles switching and disconnects the VC pin from all external loads. The PWMOUT pin follows the PWM pin. PWM has an internal 100k pull-down resistor. If not used, connect to INTVCC.", 4 ~{OPENLED} (oc) "An open-drain pull-down on O\P\E\N\L\E\D\ asserts if FB is greater than 1.15V (typical) and V(ISP-ISN) is less than 10mV (typical). To function, the pin requires an external pull-up resistor.", 5 ~{SHORTLED} (oc) "An open-drain pull-down on S\H\O\RT\L\E\D\ asserts if FB is less than 400mV (typical). To function, the pin requires an external pull-up resistor.", 6 VREF (out) "Voltage Reference Output Pin, Typically 2V. This pin drives a resistor divider for the CTRL pin, either for analog dimming or for temperature limit/compensation of the LED load. Can supply up to 200uA of current.", 7 ISMON (out) "Monitor pin that produces a voltage that is ten times the voltage V(ISP-ISN). ISMON will equal 1V when V(ISP-ISN) = 100mV.", 8 IVINMON (out) "Monitor pin that produces a voltage that is twenty times the voltage V(IVINP-IVINN). IVINMON will equal 1V when V(IVINP-IVINN) = 50mV.", 9 EN/UVLO (in) "Enable Control Pin. Forcing an accurate 1.2V falling threshold with an externally programmable hysteresis is generated by the external resistor divider and a 3uA pull-down current. Above the 1.2V (typical) threshold (but (See Datasheet)", 10 IVINP (in) "Positive Input for the Input Current Limit and Monitor. Input bias current for this pin is typically 90uA.", 11 IVINN (in) "Negative Input for the Input Current Limit and Monitor. The input bias current for this pin is typically 20uA.", 12 VIN (power) "Main Input Supply. Bypass this pin to PGND with a capacitor.", 13 INTVCC (power) "Internal 5V Regulator Output. The driver and control circuits are powered from this voltage. Bypass this pin to PGND with a minimum 4.7uF ceramic capacitor.", 14 TG1 (out) "Top Gate Drive. Drives the top N-channel MOSFET with a voltage equal to INTVCC superimposed on the switch node voltage SW1.", 15 BST1 "Bootstrapped Driver Supply. The BST1 pin swings from a diode voltage below INTVCC up to a diode voltage below VIN + INTVCC.", 16 SW1 "Switch Node. SW1 pin swings from a diode voltage drop below ground up to VIN.", 17 PGND (power) "Power Ground. Connect these pins closely to the source of the bottom N-channel MOSFET", 18 BG1 (out) "Bottom Gate Drive. Drives the gate of the bottom N-channel MOSFET between ground and INTVCC.", 19 BG2 (out) "Bottom Gate Drive. Drives the gate of the bottom N-channel MOSFET between ground and INTVCC.", 20 PGND (power) "Power Ground. Connect these pins closely to the source of the bottom N-channel MOSFET", 21 SW2 "Switch Node. SW2 pin swings from a diode voltage drop below ground up to VOUT.", 22 BST2 "Bootstrapped Driver Supply. The BST2 pin swings from a diode voltage below INTVCC up to a diode voltage below VOUT + INTVCC.", 23 NC "No Connect Pin. Leave this pin floating.", 24 TG2 (out) "Top Gate Drive. Drives the top N-channel MOSFET with a voltage equal to INTVCC superimposed on the switch node voltage SW2.", 25 ISP (in) "Connection Point for the Positive Terminal of the Output Current Feedback Resistor.", 26 ISN (in) "Connection Point for the Negative Terminal of the Output Current Feedback Resistor.", 27 SNSP (in) "The Positive Input to the Current Sense Comparator. The VC pin voltage and controlled offsets between the SNSP and SNSN pins, in conjunction with a resistor, set the current trip threshold.", 28 SNSN (in) "The Negative Input to the Current Sense Comparator.", 29 TEST1 (in) "This pin is used for testing purposes only and must be connected to SGND for the part to operate properly.", 30 SGND (power) "Signal Ground. All small-signal components and compensation should connect to this ground, which should be connected to PGND at a single point. Solder the exposed pad directly to the ground plane.", 31 PWMOUT (out) "Buffered Version of PWM Signal for Driving LED Load Disconnect N-Channel MOSFET. The PWMOUT pin is driven from INTVCC. Use of a MOSFET with a gate cutoff voltage higher than 1V is recommended.", 32 TEST2 (in) "This pin is used for testing purposes only and must be connected to INTVCC (Pin 13) for the part to operate properly.", 33 CLKOUT (out) "Clock Output Pin. An in-phase clock is provided at the oscillator frequency to allow for synchronizing two devices for extending output power capability.", 34 SYNC (in) "External Synchronization Input Pin. This pin is internally terminated to GND with a 90k resistor. The rising edge will be synchronized with the rising edge of the SYNC signal.", 35 RT "Frequency Set Pin. Place a resistor to GND to set the internal frequency. The range of oscillation is 200kHz to 700kHz.", 36 VC "Current Control Threshold and Error Amplifier Compensation Point. The current comparator threshold increases with this control voltage. The voltage ranges from 0.7V to 1.9V.", 37 FB (in) "Voltage Loop Feedback Pin. FB is intended for LED protection of an open or shorted LED event. The internal transconductance amplifier with output VC will regulate FB to 1.2V (typical) through the DC/DC converter. If the FB (See Datasheet)", 38 OVLO (in) "Overvoltage Input Pin. This pin is used for OVLO, if OVLO > 3V then SS is pulled low, the part stops switching and resets. Do not leave this pin open.", 39 EP (power) "Signal Ground. All small-signal components and compensation should connect to this ground, which should be connected to PGND at a single point. Solder the exposed pad directly to the ground plane."